# Altium schematic symbol library BFN39.Schlib: 1 symbol
Pins are listed as number, name and electrical type; pins without a type are passive.

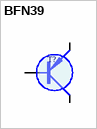
[diagram p0: symbol BFN39]

## BFN39
designator T?
SOT223 300V 0.2A 100MHz 2.5p(30V) (BFN38)
pins: 1 B, 2 C (oc), 3 E (oe)
1 alternate drawing of the same symbol